# Altium schematic symbol library BZX55B8V2.SchLib: 1 symbol
Pins are listed as number, name and electrical type; pins without a type are passive.

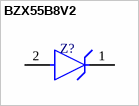
[diagram p0: symbol BZX55B8V2]

## BZX55B8V2
designator Z?  (value not drawn)
footprint BZX55B8V2
pins: 1 C, 2 A